# Altium schematic symbol library C0805.SchLib: 15 symbols
Pins are listed as number, name and electrical type; pins without a type are passive.

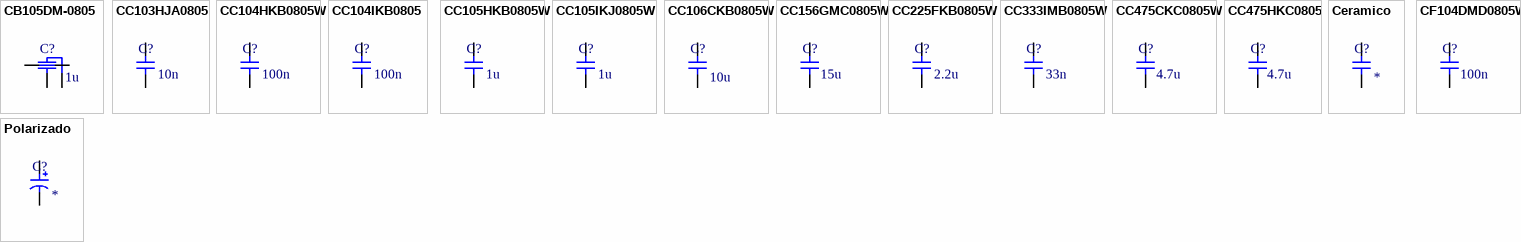
[diagram p0: symbols CB105DM-0805 to Polarizado]

## CB105DM-0805
designator C?  value 1u
Feed Through Capacitor 16V 20mOhm 0805 (2012 Metric), 3 PC Pad; Manufacturer Part Number: NFM21HC105R1C3D; Manufacturer: Murata Electronics; Working Temperature: -55°C ~ 125°C; Short Description: CAP FEEDTHRU 1UF 20% 16V 0805; Power: NC; Type: MLCC; Tolerance: 20%; Current: 4 A; Temperature Coefficient: -; Mounting: SMT; Ratings: AEC-Q200; Frequency: NC; Alternate Part Number 1: *; Alternate Part Number 2: *; Revision Date: 22/09/21; Package Reference: 0805; Voltage: 16V
footprint C0805-4PC
pins: 1, 2, 3, 4

## CC103HJA0805
designator C?  value 10n
10000 pF ±5% 50V Ceramic Capacitor C0G, NP0 0805 (2012 Metric); Manufacturer Part Number: CGA4C2C0G1H103J060AA; Manufacturer: TDK Corporation; Working Temperature: -55°C ~ 125°C; Short Description: CAP CER 10000PF 50V C0G 0805; Power: NC; Type: MLCC; Temperature Coefficient: C0G, NP0; Mounting: SMT; Ratings: AEC-Q200; Frequency: NC; Alternate Part Number 1: *; Alternate Part Number 2: *; Tolerance: ±5%; Current: NC; Revision Date: 17/09/21; Package Reference: 0805; Voltage: 50V
footprint C0805 (Footprint not found)
pins: 1, 2

## CC104HKB0805W
designator C?  value 100n
100 nF ±10% 50V Ceramic Capacitor X7R 0805 (2012 Metric); Manufacturer Part Number: GRM21BR71H104KA01L; Manufacturer: Murata Electronics; Working Temperature: -55°C ~ 125°C; Short Description: CAP CER 0.1UF 50V X7R 0805; Power: NC; Ratings: REACH, ROHS3; Type: MLCC; Temperature Coefficient: X7R; Mounting: SMT; Frequency: NC; Alternate Part Number 1: *; Alternate Part Number 2: *; Tolerance: ±10%; Current: NC; Revision Date: 03/08/21; Package Reference: 0805; Voltage: 50V
footprint C0805 (Footprint not found)
pins: 1, 2

## CC104IKB0805
designator C?  value 100n
100 nF ±10% 100V Ceramic Capacitor X7R 0805 (2012 Metric); Manufacturer Part Number: GCM21BR72A104KA37L; Manufacturer: Murata Electronics; Working Temperature: -55°C ~ 125°C; Short Description: CAP CER 0.1UF 100V X7R 0805; Power: NC; Ratings: REACH, ROHS3, AEC-Q200; Type: MLCC; Temperature Coefficient: X7R; Mounting: SMT; Frequency: NC; Alternate Part Number 1: *; Alternate Part Number 2: *; Tolerance: ±10%; Current: NC; Revision Date: 03/08/21; Package Reference: 0805; Voltage: 100V
footprint C0805 (Footprint not found)
pins: 1, 2

## CC105HKB0805W
designator C?  value 1u
1 µF ±10% 50V Ceramic Capacitor X7R 0805 (2012 Metric); Manufacturer Part Number: C0805C105K5RACTU; Manufacturer: KEMET; Working Temperature: -55°C ~ 125°C; Short Description: CAP CER 1UF 50V X7R 0805; Power: NC; Ratings: REACH, ROHS3; Type: MLCC; Temperature Coefficient: X7R; Mounting: SMT; Frequency: NC; Alternate Part Number 1: *; Alternate Part Number 2: *; Tolerance: ±10%; Current: NC; Revision Date: 03/08/21; Package Reference: 0805; Voltage: 50V
footprint C0805 (Footprint not found)
pins: 1, 2

## CC105IKJ0805W
designator C?  value 1u
1 µF ±10% 100V Ceramic Capacitor X7S 0805 (2012 Metric); Manufacturer Part Number: C2012X7S2A105K125AB; Manufacturer: TDK Corporation; Working Temperature: -55°C ~ 125°C; Short Description: CAP CER 1UF 100V X7S 0805; Power: NC; Ratings: REACH, ROHS3; Type: MLCC; Temperature Coefficient: X7S; Mounting: SMT; Frequency: NC; Alternate Part Number 1: *; Alternate Part Number 2: *; Tolerance: ±10%; Current: NC; Revision Date: 03/08/21; Package Reference: 0805; Voltage: 100V
footprint C0805 (Footprint not found)
pins: 1, 2

## CC106CKB0805W
designator C?  value 10u
10 µF ±10% 10V Ceramic Capacitor X7R 0805 (2012 Metric); Manufacturer Part Number: CL21B106KPQNNNE; Manufacturer: Samsung Electro-Mechanics; Working Temperature: -55°C ~ 125°C; Short Description: CAP CER 10UF 10V X7R 0805; Power: NC; Type: MLCC; Temperature Coefficient: X7R; Mounting: SMT; Ratings: *; Frequency: NC; Alternate Part Number 1: *; Alternate Part Number 2: *; Tolerance: ±10%; Current: NC; Revision Date: 03/08/21; Package Reference: 0805; Voltage: 10V
footprint C0805 (Footprint not found)
pins: 1, 2

## CC156GMC0805W
designator C?  value 15u
15 µF ±20% 35V Ceramic Capacitor X5R 0805 (2012 Metric); Manufacturer Part Number: C2012X5R1V156M125AC; Manufacturer: TDK Corporation; Working Temperature: -55°C ~ 85°C; Short Description: CAP CER 15UF 35V X5R 0805; Power: NC; Ratings: REACH, ROHS3; Type: MLCC; Temperature Coefficient: X5R; Mounting: SMT; Frequency: NC; Alternate Part Number 1: *; Alternate Part Number 2: *; Tolerance: ±20%; Current: NC; Revision Date: 03/08/21; Package Reference: 0805; Voltage: 35V
footprint C0805 (Footprint not found)
pins: 1, 2

## CC225FKB0805W
designator C?  value 2.2u
2.2 µF ±10% 25V Ceramic Capacitor X7R 0805 (2012 Metric); Manufacturer Part Number: CL21B225KAFNFNE; Manufacturer: Samsung Electro-Mechanics; Working Temperature: -55°C ~ 125°C; Short Description: CAP CER 2.2UF 25V X7R 0805; Power: NC; Ratings: ROHS3/REACH; Type: MLCC; Temperature Coefficient: X7R; Mounting: SMT; Frequency: NC; Alternate Part Number 1: *; Alternate Part Number 2: *; Tolerance: ±10%; Current: NC; Revision Date: 18/04/23; Package Reference: 0805; Voltage: 25V
footprint C0805 (Footprint not found)
pins: 1, 2

## CC333IMB0805W
designator C?  value 33n
33 nF ±20% 100V Ceramic Capacitor X7R 0805 (2012 Metric); Manufacturer Part Number: C2012X7R2A333M; Manufacturer: TDK Corporation; Working Temperature: -55°C ~ 125°C; Short Description: CAP CER 0.033UF 100V X7R 0805; Power: NC; Ratings: REACH, ROHS3; Type: MLCC; Temperature Coefficient: X7R; Mounting: SMT; Frequency: NC; Alternate Part Number 1: *; Alternate Part Number 2: *; Tolerance: ±20%; Current: NC; Revision Date: 03/08/21; Package Reference: 0805; Voltage: 100V
footprint C0805 (Footprint not found)
pins: 1, 2

## CC475CKC0805W
designator C?  value 4.7u
4.7 µF ±10% 10V Ceramic Capacitor X7R 0805 (2012 Metric); Manufacturer Part Number: LMK212B7475KG-T; Manufacturer: Taiyo Yuden; Working Temperature: -55°C ~ 125°C; Short Description: CAP CER 4.7UF 10V X7R 0805; Power: NC; Ratings: REACH, ROHS3; Type: MLCC; Temperature Coefficient: X7R; Mounting: SMT; Frequency: NC; Alternate Part Number 1: *; Alternate Part Number 2: *; Tolerance: ±10%; Current: NC; Revision Date: 03/08/21; Package Reference: 0805; Voltage: 10V
footprint C0805 (Footprint not found)
pins: 1, 2

## CC475HKC0805
designator C?  value 4.7u
4.7 µF ±10% 50V Ceramic Capacitor X5R 0805 (2012 Metric); Manufacturer Part Number: GRT21BR61H475KE13L; Manufacturer: Murata Electronics; Working Temperature: -55°C ~ 85°C; Short Description: CAP CER 4.7UF 50V X5R 0805; Power: NC; Ratings: REACH, ROHS3, AEC-Q200; Type: MLCC; Temperature Coefficient: X5R; Mounting: SMT; Frequency: NC; Alternate Part Number 1: *; Alternate Part Number 2: *; Tolerance: ±10%; Current: NC; Revision Date: 03/08/21; Package Reference: 0805; Voltage: 50V
footprint C0805 (Footprint not found)
pins: 1, 2

## Ceramico
designator C?
Power: NC; Type: MLCC; Manufacturer Part Number: *; Working Temperature: *; Temperature Coefficient: *; Mounting: SMT; Short Description: *; Ratings: *; Frequency: NC; Alternate Part Number 1: *; Alternate Part Number 2: *; Manufacturer: *; Tolerance: *; Current: NC; Revision Date: 03/08/21; Package Reference: 0805; Voltage: *; Value: *
footprint C0805 (Footprint not found)
pins: 1, 2

## CF104DMD0805W
designator C?  value 100n
100 nF Film Capacitor 12V 16V Acrylic, Metallized 0805 (2012 Metric); Manufacturer Part Number: FCA0805C104M-J2; Manufacturer: Cornell Dubilier Electronics (CDE); Working Temperature: -40°C ~ 85°C; Temperature Coefficient: Y5V; Short Description: CAP FILM 0.1UF 20% 16VDC 0805; Power: NC; Ratings: REACH, ROHS3; Tolerance: ±20%; Mounting: SMT; Type: Film; Frequency: NC; Alternate Part Number 1: *; Alternate Part Number 2: *; Current: NC; Revision Date: 03/08/21; Package Reference: 0805; Voltage: 16V
footprint C0805 (Footprint not found)
pins: 1, 2

## Polarizado
designator C?
Power: NC; Type: MLCC; Manufacturer Part Number: *; Working Temperature: *; Temperature Coefficient: *; Mounting: SMT; Short Description: *; Ratings: *; Frequency: NC; Alternate Part Number 1: *; Alternate Part Number 2: *; Manufacturer: *; Tolerance: *; Current: NC; Revision Date: 03/08/21; Package Reference: 0805; Voltage: *; Value: *
footprint C0805 (Footprint not found)
pins: 1, 2